# EAGLE library part FDG6331L (library mille-feuille)
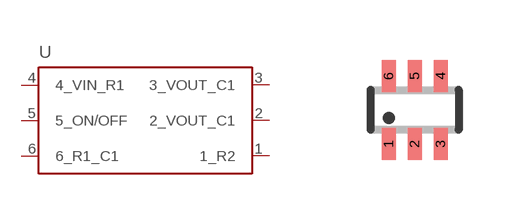
[diagram p0: symbol with the pads of SC70-6L; footprint SC70-6L]

Designator prefix -

## FDG6331L  [SC70-6L]
1  1_R2
2  2_VOUT_C1
3  3_VOUT_C1
4  4_VIN_R1
5  5_ON/OFF
6  6_R1_C1

## Footprint SC70-6L (pad centres in mm)
SC-70 Package
smd 0.35 x 0.8: 1 -0.65,-0.85; 2 0,-0.85; 3 0.65,-0.85; 4 0.65,0.85; 5 0,0.85; 6 -0.65,0.85